# Altium schematic symbol library Connectors.SchLib: 4 symbols
Pins are listed as number, name and electrical type; pins without a type are passive.

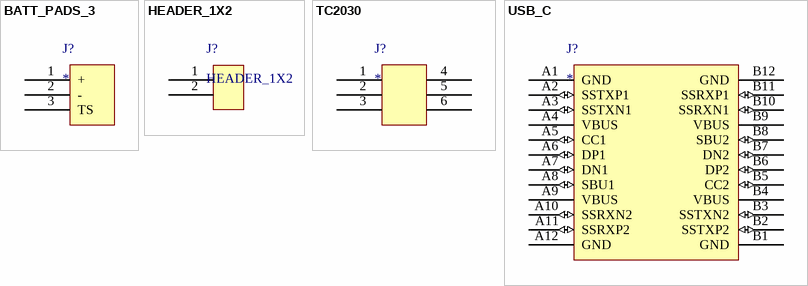
[diagram p0: symbols BATT_PADS_3 to USB_C]

## BATT_PADS_3
designator J?
footprint BATT_PADS_3
pins: 1 + (power), 2 - (power), 3 TS

## HEADER_1X2
designator J?
footprint 1X02
pins: 1, 2

## TC2030
designator J?  (no BOM)
6-pin Plug-of-Nails Cable
footprint TC2030
footprint TC2030-NL
pins: 1, 2, 3, 4, 5, 6

## USB_C
designator J?
footprint AMPHENOL_12401610E4#2A_12401610E4#2A(Primary)
pins: A1 GND (power), A2 SSTXP1 (io), A3 SSTXN1 (io), A4 VBUS (power), A5 CC1 (io), A6 DP1 (io), A7 DN1 (io), A8 SBU1 (io), A9 VBUS (power), A10 SSRXN2 (io), A11 SSRXP2 (io), A12 GND (power), B1 GND (power), B2 SSTXP2 (io), B3 SSTXN2 (io), B4 VBUS (power), B5 CC2 (io), B6 DP2 (io), B7 DN2 (io), B8 SBU2 (io), B9 VBUS (power), B10 SSRXN1 (io), B11 SSRXP1 (io), B12 GND (power)